# EAGLE library part DMN63D8LDW-7 (library DMN63D8LDW-7)
Diodes Inc DMN63D8LDW-7 Dual N-channel MOSFET Transistor, 0.26 A, 30 V, 6-Pin SOT-363 Source: Datasheet <https://www.diodes.com/assets/Datasheets/DMN63D8LDW.pdf>
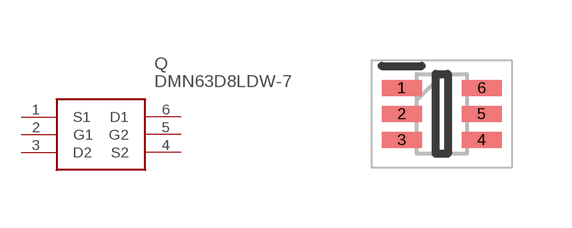
[diagram p0: symbol with the pads of SOT65P210X110-6N; footprint SOT65P210X110-6N]

Designator prefix Q

## DMN63D8LDW-7 (Allied_Number: 70551252; Allied_Price-Stock: https://www.alliedelec.com/diodes-inc-dmn63d8ldw-7/70551252/; Description: Diodes Inc DMN63D8LDW-7 Dual N-channel MOSFET Transistor, 0.26 A, 30 V, 6-Pin SOT-363; Height: 1.1mm; Manufacturer_Name: Diodes Inc.; Manufacturer_Part_Number: DMN63D8LDW-7; Mouser_Part_Number: 621-DMN63D8LDW-7; Mouser_Price-Stock: https://www.mouser.com/Search/Refine.aspx?Keyword=621-DMN63D8LDW-7; RS_Part_Number: 8222598P; RS_Price-Stock: http://uk.rs-online.com/web/p/products/8222598P)  [SOT65P210X110-6N]
1  S1
2  G1
3  D2
4  S2
5  G2
6  D1

## Footprint SOT65P210X110-6N (pad centres in mm)
SOT23
smd 1 x 0.4: 1 -1,0.65; 2 -1,0; 3 -1,-0.65; 4 1,-0.65; 5 1,0; 6 1,0.65